# Altium footprint library CHERRY_SW_SR_01.PcbLib: 1 footprints
Each footprint in its own frame and in the unit in brackets; x right, y up, seen from the top. Pads: shape width x height; smd on the part's side, far side on the other; paste and mask are expansions set on the pad; w line width, h text height; cw(c..) or ccw(c..) is an arc to the next point about the centre after c.
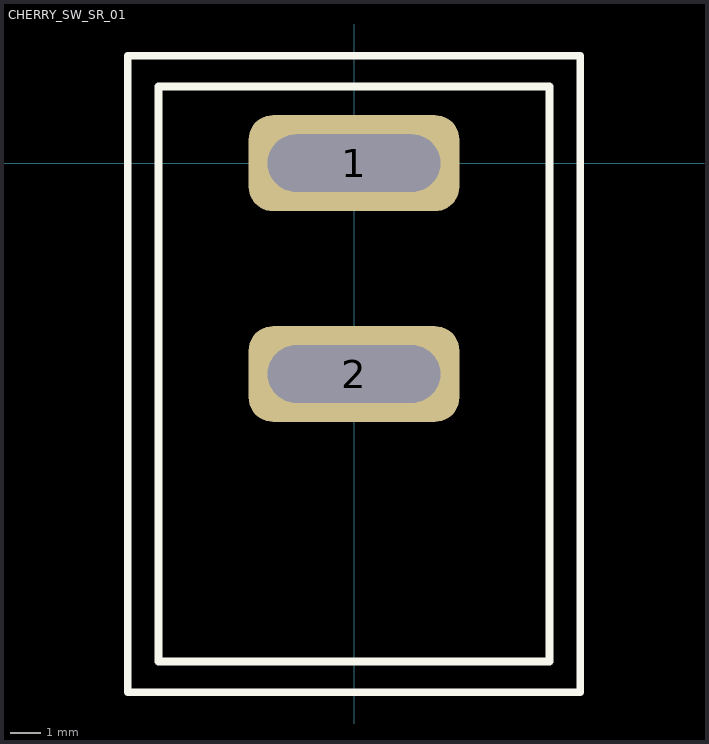
[diagram p0: the footprint, top view; thin cyan lines are the x and y axes]

## CHERRY_SW_SR_01 [mil] "Through-Hole Footprint for a Panel Mount Switch Cherry SR"
pads (2):
  rrect50% 275x125 hole 75 slot 225 at 0 deg: 1(0,0) 2(0,-275)
Top Overlay:
  lines w10: -295,-690 -295,140 295,140 295,-690 -295,-690 ; -255,-650 255,-650 255,100 -255,100 -255,-650